# EAGLE library part TPS2378 (library ELL-i-PowerIC)
TI 802.3at Power-over-Ethernet controller with an integrated FET This IC contains all of the features needed to implement an IEEE802.3at type-2 powered device (PD). It includes an 0.5 Ω RDSON Power FET, which enables continuous 0.85 A current. It supports also auxiliary power. Product page <http://www.ti.com/product/tps2378> Datasheet <http://www.ti.com/lit/gpn/tps2378> Wiki page <https://github.com/Ell-i/ELL-i-Eagle-Libraries/wiki/PowerIC-TPS2378>
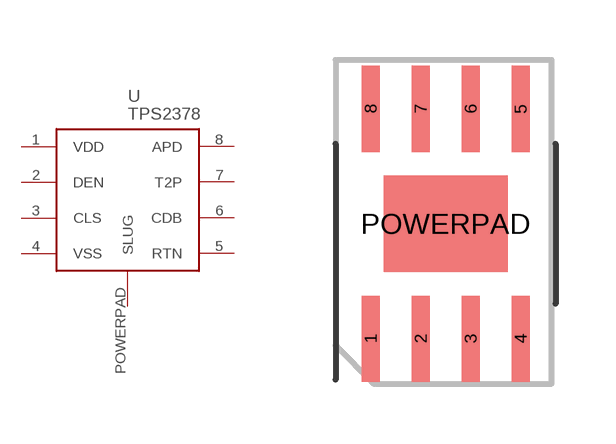
[diagram p0: symbol with the pads of SO08-POWERPAD; footprint SO08-POWERPAD]

Designator prefix U

## TPS2378  [SO08-POWERPAD]
1  VDD  in
2  DEN
3  CLS  out
4  VSS  pwr
5  RTN  pwr
6  CDB  out
7  T2P  out
8  APD  in
POWERPAD  SLUG  pwr

## Footprint SO08-POWERPAD (pad centres in mm)
8 leads Small Outline (SO) package with a central powerpad Drawn from the TPS2378 datasheet.
smd 0.45 x 2.15: 1 -1.875,-2.875; 2 -0.625,-2.875; 3 0.625,-2.875; 4 1.875,-2.875; 5 1.875,2.875; 6 0.625,2.875; 7 -0.625,2.875; 8 -1.875,2.875
smd 3.1 x 2.4: POWERPAD 0,0